# EAGLE library part HPH12002M (library dc-dcs)
ＤＣ－ＤＣコンバータ ５～２４Ｖ可変 http://akizukidenshi.com/catalog/g/gM-02038/
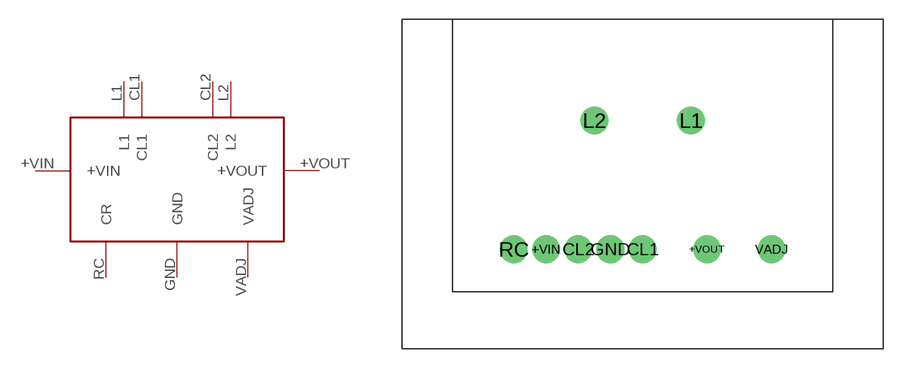
[diagram p0: symbol with the pads of HPH12002M; footprint HPH12002M]

Designator prefix -

## HPH12002M  [HPH12002M]
+VIN  +VIN
+VOUT  +VOUT
CL1  CL1
CL2  CL2
GND  GND
L1  L1
L2  L2
RC  CR
VADJ  VADJ

## Footprint HPH12002M (pad centres in mm)
drill 1 pad 2.184: +VIN -7.62,-10.16; +VOUT 5.08,-10.16; CL1 0,-10.16; CL2 -5.08,-10.16; GND -2.54,-10.16; L1 3.81,0; L2 -3.81,0; RC -10.16,-10.16; VADJ 10.16,-10.16